# Altium integrated library Switch.IntLib: 21 symbols
Pins are listed as number, name and electrical type; pins without a type are passive.

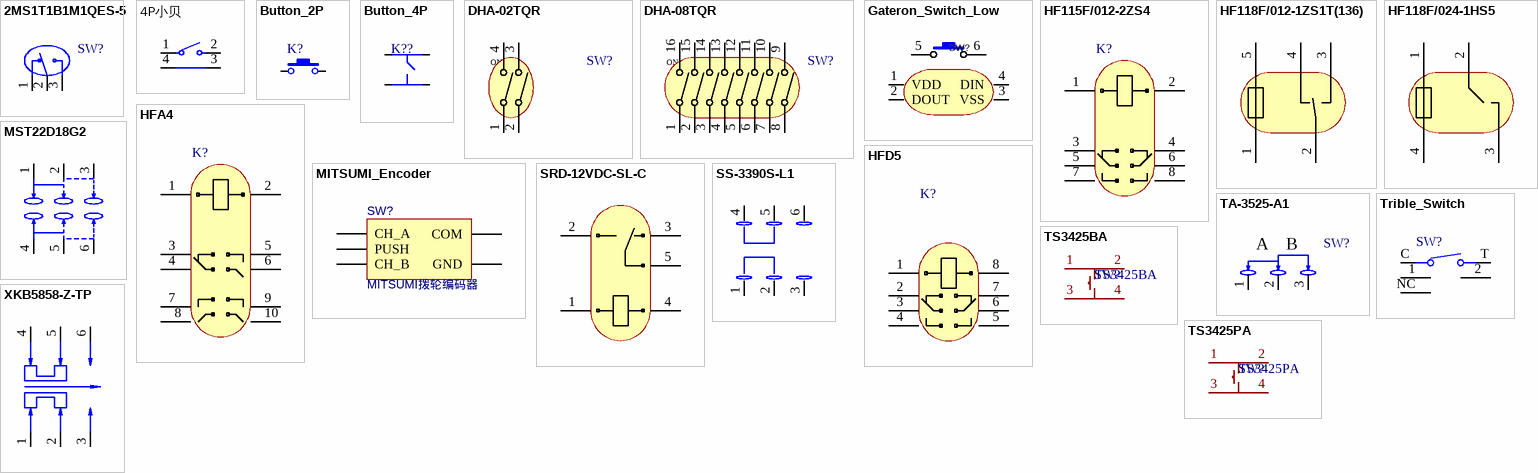
[diagram p0: symbols 2MS1T1B1M1QES-5 to XKB5858-Z-TP]

## 2MS1T1B1M1QES-5
designator SW?, comment 直插钮子开关  (value not drawn)
电路结构:单刀双掷;开关长度:8.13mm;开关宽度:5.08mm;开关高度:23.63mm;; Manufacturer: Dailywell(德利威); Name: 2MS1T1B1M1QES-5; Add into BOM: yes; Contact Current: 3A; Voltage Rating (AC): 120V; Voltage Rating (DC): 28V; Circuit: 单刀双掷; Mechanical Life: 30000; Actuator Type: 圆柱钮柄; Pin Style: 焊片; Switch Length: 8.13mm; Switch Width: 5.08mm; Symbol: 2MS1T1B1M1QES-5; Device: 2MS1T1B1M1QES-5; LCSC Part Name: 2MS1T1B1M1QES-5(3件套）; Supplier Part: C496169; Manufacturer Part: 2MS1T1B1M1QES-5; Supplier Footprint: 插件; JLCPCB Part Class: 扩展库; Datasheet: https://atta.szlcsc.com/upload/public/pdf/source/20200313/C496169_0E47ECEFB606B793C67A73ECC7C4E580.pdf; Supplier: LCSC; Convert to PCB: yes; Mounting Style: 直插; Operating Temperature: -40℃~+85℃; Switch Height: 23.63mm
footprint SW-TH_2MS1T1B1M1QES-5 (3脚直插钮子开关L=8mm)
pins: 1, 2, 3

## 4P小贝
designator SW??, comment GT-TC018A-H0375-L1  (value not drawn)
Manufacturer: G-Switch(品赞); Add into BOM: yes; Circuit: 单刀单掷; Actuator Style: 矩形按钮; Operating Force: 1.6N; Switch Length: 4.7mm; Switch Width: 1.9mm; Switch Height: 3.75mm; Strike Gundam: 不带; Contact Current: 50mA; Voltage Rating (DC): 12V; Insulation Resistance: 100MΩ; Actuator/Cap Color: 黑色; With Lamp: 无; Pin Style: SMD接片; Mechanical Life: 10万次; Symbol: GT-TC018A-H0375-L1; Device: GT-TC018A-H0375-L1; LCSC Part Name: 4.7*1.9*3.75mm 卧贴 轻触开关; Supplier Part: C963235; Manufacturer Part: GT-TC018A-H0375-L1; Supplier Footprint: SMD; JLCPCB Part Class: Extended Part; Datasheet: https://atta.szlcsc.com/upload/public/pdf/source/20201201/C963235_1379E8FB9A9D5A830B16F6A18B8D18DC.pdf; Supplier: LCSC; Convert to PCB: yes; Mounting Style: 卧贴; Operating Temperature: -30℃~+85℃
footprint SW-SMD_L4.7-W3.5-P3.35-EH
pins: 1, 2, 3, 4

## Button_2P
designator K?, comment TACT 2P  (value not drawn)
Button; type: TACT 2P
footprint ButtonTACT_3*4*2_180 (两脚小龟按钮_正按_不带定位柱)
footprint KEY-SMD_B3U-1000PM
footprint KEY-SMD_L6.0-W6.0-LS6.6
footprint Kailh_MicroSwitch
pins: 1, 2

## Button_4P
designator K??, comment TACT 4P  (value not drawn)
Button; type: TACT 4P
footprint ButtonTACT_3.5*3.55_90 (四脚中龟按钮_侧按_不带定位柱)
footprint KEY-SMD_4P-L6.0-W6.0-P4.50-LS10.0
footprint SW-SMD_4P-L4.7-W3.6-P1.70-LS6.4-EH
pins: 1, 2, 3, 4

## DHA-02TQR
designator SW?, comment DHA-08TQR  (value not drawn)
贴片拨码开关 间距1.27mm 2PIN/位 平拨低杆; Manufacturer: 圜达; Add into BOM: yes; Name: DHA-08TQR; Symbol: DHA-08TQR; Device: DHA-08TQR; LCSC Part Name: 拨码开关; Supplier Part: C501294; Manufacturer Part: DHA-08TQR; Supplier Footprint: SMD-16P,11.29x6.2mm; JLCPCB Part Class: 扩展库; Datasheet: https://atta.szlcsc.com/upload/public/pdf/source/20200324/C501294_4539641D031FD3D9977E3E349B22E915.pdf; Supplier: LCSC; Convert to PCB: yes
footprint SW-SMD_2P-L5.4-W4.1-P1.27-LS8.0
pins: 1, 2, 3, 4
text: ON

## DHA-08TQR
designator SW?  (value not drawn)
贴片拨码开关 间距1.27mm 8PIN/位 平拨低杆; Manufacturer: 圜达; Add into BOM: yes; Name: DHA-08TQR; Symbol: DHA-08TQR; Device: DHA-08TQR; LCSC Part Name: 拨码开关; Supplier Part: C501294; Manufacturer Part: DHA-08TQR; Supplier Footprint: SMD-16P,11.29x6.2mm; JLCPCB Part Class: 扩展库; Datasheet: https://atta.szlcsc.com/upload/public/pdf/source/20200324/C501294_4539641D031FD3D9977E3E349B22E915.pdf; Supplier: LCSC; Convert to PCB: yes
footprint SW-SMD_16P-L11.3-W6.2-P1.27-LS8.1
pins: 1, 2, 3, 4, 5, 6, 7, 8, 9, 10, 11, 12, 13, 14, 15, 16
text: ON

## Gateron_Switch_Low
designator SW?, comment 佳达隆带灯热插拔矮轴  (value not drawn)
Add into BOM: yes; Symbol: 带灯热插拔矮轴; Device: 带灯热插拔矮轴; Convert to PCB: yes
footprint Gateron_Switch_Direct
pins: 1 VDD, 2 DOUT, 3 VSS, 4 DIN, 5 1, 6 2

## HF115F/012-2ZS4
designator K?  (value not drawn)
线圈电压:12V;引脚数:8;触点形式:两组转换:2C(双刀双掷-转换);触点容量(电阻负载):8A@250VAC;触点材料:AgCdO;; Manufacturer: HF(宏发); Add into BOM: yes; Coil Voltage: 12V; Coil Type: 非极化-单线圈; Pin Number: 8; Maximum Switching Current: 8A; Maximum Switching Voltage: 440V@AC；300V@DC; Coil Rated Power: 400mW; Coil Resistance: 360Ω; Operate Time: 15ms; Release Time: 8ms; Contact Resistance: 100mΩ; Name: HF115F/012-2ZS4; Symbol: HF115F/012-2ZS4; Device: HF115F/012-2ZS4; LCSC Part Name: 小型大功率直流12V继电器 双刀双掷; Supplier Part: C163534; Manufacturer Part: HF115F/012-2ZS4; Supplier Footprint: DIP,12.7x29mm; JLCPCB Part Class: 扩展库; Datasheet: https://atta.szlcsc.com/upload/public/pdf/source/20180125/C163534_15168649618581302855.pdf; Supplier: LCSC; Convert to PCB: yes; Contact Form: 两组转换:2C(双刀双掷-转换); Contact Rating: 8A@250VAC; Contact Material: AgCdO; Operating Temperature: -40℃~+85℃
footprint RELAY-TH_HF115F-024-2ZS4
pins: 1, 2, 3, 4, 5, 6, 7, 8

## HF118F/012-1ZS1T(136)
designator K??  (value not drawn)
Manufacturer: HF(宏发); Add into BOM: yes; Coil Voltage: 12V; Coil Type: 非极化-单线圈; Pin Number: 5; Contact Form: 一组转换:1C(单刀双掷-转换); Maximum Switching Current: 8A; Maximum Switching Voltage: 125V@DC；440V@AC; Coil Rated Power: 220mW; Coil Resistance: 620Ω; Operate Time: 10ms; Release Time: 5ms; Contact Resistance: 100mΩ; Name: HF118F/012-1ZS1T(136); Symbol: HF118F/012-1ZS1T(136); Device: HF118F/012-1ZS1T(136); LCSC Part Name: 小型大功率12V继电器 单刀双掷; Supplier Part: C358641; Manufacturer Part: HF118F/012-1ZS1T(136); Supplier Footprint: 插件,10.1x28.5mm; JLCPCB Part Class: Extended Part; Datasheet: https://atta.szlcsc.com/upload/public/pdf/source/20190107/C358641_5A7D4A3B2467D8D31036A88FB71A67BA.pdf; Supplier: LCSC; Convert to PCB: yes; Contact Material: AgSnO2; Operating Temperature: -40℃~+85℃
footprint RELAY-TH_HF118F-X-1ZX1X-XXX
pins: 1, 2, 3, 4, 5

## HF118F/024-1HS5
designator K??  (value not drawn)
Manufacturer: HF(宏发); Add into BOM: yes; Coil Voltage: 24V; Coil Type: 非极化-单线圈; Pin Number: 4; Contact Form: 一组常开:1A(单刀单掷-常开); Maximum Switching Current: 8A; Maximum Switching Voltage: 125V@DC；440V@AC; Coil Rated Power: 220mW; Coil Resistance: 2.35kΩ; Operate Time: 10ms; Release Time: 5ms; Contact Resistance: 100mΩ; Name: HF118F/024-1HS5; Symbol: HF118F/024-1HS5; Device: HF118F/024-1HS5; LCSC Part Name: 小型大功率24V继电器 单刀单掷-常开; Supplier Part: C278461; Manufacturer Part: HF118F/024-1HS5; Supplier Footprint: 插件,10.1x28.5mm; JLCPCB Part Class: Extended Part; Datasheet: https://atta.szlcsc.com/upload/public/pdf/source/20181015/C278461_582F0752CFC8C03658F878739AEEF72F.pdf; Supplier: LCSC; Convert to PCB: yes; Contact Material: AgNi; Operating Temperature: -40℃~+85℃
footprint RELAY-TH_HF118F-024-1HS5
pins: 1, 2, 3, 4

## HFA4
designator K?, comment HF115F/012-2ZS4  (value not drawn)
● 多种触点组合：两组常开+两组常闭、 / 三组常开+一组常闭 / ● 强制导向的触点结构(符合IEC 61810-3标准) / ● 负载能力强：6A触点切换能力 / ● 低输入功耗：360mW / ● 绝缘能力强：输入-输出承受10kV浪涌电压， / ● UL绝缘等级：F级绝缘等级可供选择; Manufacturer: HF(宏发); Add into BOM: yes; Coil Voltage: 12V; Coil Type: 非极化-单线圈; Pin Number: 8; Contact Form: 两组转换:2C(双刀双掷-转换); Maximum Switching Current: 8A; Maximum Switching Voltage: 440V@AC；300V@DC; Coil Rated Power: 400mW; Contact Rating: 8A@250VAC; Coil Resistance: 360Ω; Operate Time: 15ms; Release Time: 8ms; Contact Resistance: 100mΩ; Name: HF115F/012-2ZS4; Symbol: HF115F/012-2ZS4; Device: HF115F/012-2ZS4; LCSC Part Name: 小型大功率直流12V继电器 双刀双掷; Supplier Part: C163534; Manufacturer Part: HF115F/012-2ZS4; Supplier Footprint: DIP,12.7x29mm; JLCPCB Part Class: 扩展库; Datasheet: https://atta.szlcsc.com/upload/public/pdf/source/20180125/C163534_15168649618581302855.pdf; Supplier: LCSC; Convert to PCB: yes; Contact Material: AgCdO; Operating Temperature: -40℃~+85℃
footprint HFA4
pins: 1, 2, 3, 4, 5, 6, 7, 8, 9, 10

## HFD5
designator K?, comment HF115F/012-2ZS4  (value not drawn)
线圈电压:12V;引脚数:8;触点形式:两组转换:2C(双刀双掷-转换);触点容量(电阻负载):8A@250VAC;触点材料:AgCdO;; Manufacturer: HF(宏发); Add into BOM: yes; Coil Voltage: 12V; Coil Type: 非极化-单线圈; Pin Number: 8; Maximum Switching Current: 8A; Maximum Switching Voltage: 440V@AC；300V@DC; Coil Rated Power: 400mW; Coil Resistance: 360Ω; Operate Time: 15ms; Release Time: 8ms; Contact Resistance: 100mΩ; Name: HF115F/012-2ZS4; Symbol: HF115F/012-2ZS4; Device: HF115F/012-2ZS4; LCSC Part Name: 小型大功率直流12V继电器 双刀双掷; Supplier Part: C163534; Manufacturer Part: HF115F/012-2ZS4; Supplier Footprint: DIP,12.7x29mm; JLCPCB Part Class: 扩展库; Datasheet: https://atta.szlcsc.com/upload/public/pdf/source/20180125/C163534_15168649618581302855.pdf; Supplier: LCSC; Convert to PCB: yes; Contact Form: 两组转换:2C(双刀双掷-转换); Contact Rating: 8A@250VAC; Contact Material: AgCdO; Operating Temperature: -40℃~+85℃
footprint RELAY-TH-HFD5
footprint RELAY-SMD_HFD4-5-S
pins: 1, 2, 3, 4, 5, 6, 7 4, 8

## MITSUMI_Encoder
designator SW?, comment MITSUMI拨轮编码器
MITSUMI美上美拨轮编码器; BOM_Manufacturer: ALPSALPINE; BOM_Manufacturer Part: EC11E1534443; Contributor: LCSC; BOM_Supplier: LCSC; BOM_Supplier Part: C1322543; BOM_JLCPCB Part Class: Extended Part; spicePre: S; spiceSymbolName: EC11E1534443
footprint SIQ_02FVS3 (美上美滚动编码器)
pins: 1 CH_A, 2 PUSH, 3 COM, 4 CH_B, 5 GND

## MST22D18G2
designator ?  (value not drawn)
Designer: U?; Symbol: MST22D18G2; Device: MST22D18G2
footprint SW-SMD_MST22D18G2
pins: 1, 2, 3, 4, 5, 6

## SRD-12VDC-SL-C
designator RELAY??  (value not drawn)
Manufacturer: 松乐; Add into BOM: yes; Coil Voltage: 12V; Contact Form: 一组转换:1C(单刀双掷-转换); Pin Number: 5; Maximum Switching Voltage: 250V@AC; Coil Rated Power: 360mW; Maximum Switching Current: 15A; Coil Type: 无极性-单线圈; Coil Resistance: 400Ω; Contact Resistance: 100mΩ; Operate Time: 10ms; Symbol: SRD-12VDC-SL-C; Device: SRD-12VDC-SL-C; LCSC Part Name: SRD-12VDC-SL-C; Supplier Part: C30431; Manufacturer Part: SRD-12VDC-SL-C; Supplier Footprint: 插件,15.6x19.2mm; JLCPCB Part Class: Extended Part; Datasheet: https://atta.szlcsc.com/upload/public/pdf/source/20200305/C490149_C96E4098A3B1FFB377D5AD2E40B7C2A8.pdf; Supplier: LCSC; Convert to PCB: yes; Contact Rating: -; Release Time: 10ms
footprint RELAY-TH_SRD-XXVDC-XL-C
pins: 1, 2, 3, 4, 5

## SS-3390S-L1
designator SW??  (value not drawn)
Manufacturer: XKB Connectivity(中国星坤); Add into BOM: yes; Current Rating (DC): 50mA; Voltage Rating (DC): 12V; Circuit: 双刀双掷; Mechanical Life: 1万次; Actuator Color: 黑色; Actuator Style: 矩形柱状; Pin Style: SMD接片; Switch Length: 7.2mm; Switch Width: 3.5mm; Switch Height: 1.5mm; Name: SS-3390S-L1; Symbol: SS-3390S-L1; Device: SS-3390S-L1; LCSC Part Name: 柄长1.5mm 立贴双档 滑动开关; Supplier Part: C318998; Manufacturer Part: SS-3390S-L1; Supplier Footprint: SMD; JLCPCB Part Class: Extended Part; Datasheet: https://atta.szlcsc.com/upload/public/pdf/source/20211011/F8A0AB7D604333246E6C5B0779827E09.pdf; Supplier: LCSC; Convert to PCB: yes; Current Rating (AC): 50mA; Voltage Rating (AC): 12V; Mounting Style: 立贴; Operating Temperature: -40℃~+85℃
footprint SW-SMD_6P-P2.50_L3.5-W7.2
pins: 1, 2, 3, 4, 5, 6

## TA-3525-A1
designator SW?  (value not drawn)
Manufacturer: Yuandi(元迪); Add into BOM: yes; Symbol: TA-3525-A1; Device: TA-3525-A1; Supplier: LCSC; Supplier Part: C514018; Manufacturer Part: TA-3525-A1; JLCPCB Part Class: 扩展库; LCSC Part Name: 滑动开关9.1*3.5*2.0mm贴片侧拨单排三脚二档; Supplier Footprint: SMD,3.5x9.1mm; Datasheet: https://atta.szlcsc.com/upload/public/pdf/source/20200415/C514019_BD29F4555739DB2630A1255040CB70C0.pdf; Convert to PCB: yes; Name: TA-3525-A1
footprint SW-SMD_3P-L9.1-W3.5-P2.50-EH6.8
pins: 1, 2, 3
text: A; B

## Trible_Switch
designator SW?, comment K1-1502SA-02  (value not drawn)
三向拨动开关; Manufacturer: 韩国韩荣; Add into BOM: yes; Symbol: K1-1502SA-02; Device: K1-1502SA-02; LCSC Part Name: 上中下按键三向拨轮开关 11.8mm*11.7mm; Supplier Part: C128929; Manufacturer Part: K1-1502SA-02; JLCPCB Part Class: 扩展库; Datasheet: https://atta.szlcsc.com/upload/public/pdf/source/20210810/6E4D76E797EC1584D0EB8D60F77D41D6.pdf; Supplier: LCSC; Convert to PCB: yes; Name: K1-1502SA-02; Supplier Footprint: SMD-5P,11.8x11.7mm
footprint KEY-SMD_K1-1502SA-02 (三向拨动开关)
pins: 1, 2, C, NC, T

## TS3425BA
designator SW?
电路结构:单刀单掷;按钮形状:椭圆形按钮;作用力:2.5N;安装方式:立贴;开关长度:4.2mm;开关宽度:3.2mm;开关高度:2.5mm;带支架:不带支架;触点电流:50mA;额定电压:12V;带灯:无;工作寿命:3万次;; Manufacturer: SHOU HAN(首韩); SEEX_AUTHOR: ref42; SEEX_COMPONENT_ID: C2681476; Actuator Style: 椭圆形按钮; Actuator/Cap Color: 白色; Circuit: 单刀单掷; Contact Current: 50mA; Life: 3万次; Operating Force: 2.5N; Switch Height: 2.5mm; Voltage Rating: 12V; With Lamp: 无; with Bracket: 不带支架; SEEX_PROJECT_URL: https://github.com/ref42/seex; Footprint: SW-SMD_4P-L4.2-W3.2-P2.15-LS4.6-1; Datasheet: https://item.szlcsc.com/datasheet/TS3425BA/2774819.html; JLCPCB Part Class: Extended Part; LCSC Part Name: 4.2*3.2*2.5mm 立贴 电子烟轻触开关; Length: 4.2mm; Manufacturer Part: TS3425BA; Mounting Type: 立贴; Operating Temperature: -20℃~+70℃; Supplier: LCSC; Supplier Footprint: SMD-4P,4.2x3.2mm; Supplier Part: C2681476; Termination Style: J型引脚; Width: 3.2mm
footprint SW-SMD_4P-L4.2-W3.2-P2.15-LS4.6-1 (PCB footprint)
pins: 1, 2, 3, 4

## TS3425PA
designator SW?
电路结构:单刀单掷;按钮形状:椭圆形按钮;作用力:1.6N;安装方式:立贴;开关长度:4.2mm;开关宽度:3.4mm;开关高度:2.5mm;带支架:不带支架;触点电流:50mA;额定电压:12V;带灯:无;工作寿命:5万次;; Manufacturer: SHOU HAN(首韩); Manufacturer Part: TS3425PA 160gf; SEEX_AUTHOR: ref42; SEEX_COMPONENT_ID: C668583; Actuator Style: 椭圆形按钮; Actuator/Cap Color: 白色; Circuit: 单刀单掷; Contact Current: 50mA; Life: 5万次; Operating Force: 1.6N; Switch Height: 2.5mm; Voltage Rating: 12V; With Lamp: 无; with Bracket: 不带支架; SEEX_PROJECT_URL: https://github.com/ref42/seex; Footprint: SW-SMD_4P-L4.2-W3.4-P2.15-LS5.2; Datasheet: https://item.szlcsc.com/datasheet/TS3425PA%2520160gf/698526.html; JLCPCB Part Class: Extended Part; LCSC Part Name: 4.2*3.4*2.5mm 立贴 电子烟轻触开关; Length: 4.2mm; Mounting Type: 立贴; Operating Temperature: -20℃~+70℃; Supplier: LCSC; Supplier Footprint: SMD,4.2x3.4mm; Supplier Part: C668583; Termination Style: SMD接片; Width: 3.4mm
footprint SW-SMD_4P-L4.2-W3.4_HX-TS3425PA-250GF-B (SMD-4P,3.35x5.2mm)
pins: 1, 2, 3, 4

## XKB5858-Z-TP
designator SW??
6Pin自锁开关; Manufacturer: XKB Connection(中国星坤); Symbol: XKB5858-Z-TP_C840833; Device: XKB5858-Z-TP; Add into BOM: yes; Self Lock / No Lock: 自锁; Actuator Style: 方形按钮; Contact Current: 100mA; Voltage Rating (AC): 250V; Voltage Rating (DC): 30V; Insulation Resistance: 100MΩ; Actuator/Cap Color: 白色; With Lamp: 不带; Pin Style: SMD接片; Operating Force: 1.6N; Mechanical Life: 10万次; LCSC Part Name: XKB5858-Z-TP 自锁; Supplier Part: C840833; Manufacturer Part: XKB5858-Z-TP; Supplier Footprint: SMD; JLCPCB Part Class: Extended Part; Datasheet: https://atta.szlcsc.com/upload/public/pdf/source/20211011/AE8D1C6B8E6A5387F65392BE419A90C8.pdf; Supplier: LCSC; Convert to PCB: yes; IP Rating: -; Mounting Style: 立贴; Operating Temperature: -15℃~+55℃
footprint SW-SMD_6P-L5.8-W5.8-P2.00-LS8.5-TR
pins: 1, 2, 3, 4, 5, 6